# EAGLE library part AS-ITM-00203 (library tinycircuits)
IC GPIO EXP I2C 8CH 20UTQFN
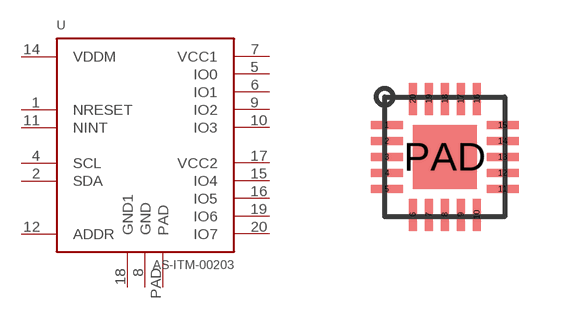
[diagram p88: symbol with the pads of QFN-UT20; footprint QFN-UT20]

Designator prefix U

## AS-ITM-00203 (PARTNO: AS-ITM-00203; VALUE: SX1505I087TRT)  [QFN-UT20]
1  NRESET
2  SDA
4  SCL
5  IO0
6  IO1
7  VCC1
8  GND
9  IO2
10  IO3
11  NINT
12  ADDR
14  VDDM
15  IO4
16  IO5
17  VCC2
18  GND1
19  IO6
20  IO7
PAD  PAD

## Footprint QFN-UT20 (pad centres in mm)
smd 0.8 x 0.2: 1 -1.45,0.8; 2 -1.45,0.4; 3 -1.45,0; 4 -1.45,-0.4; 5 -1.45,-0.8; 11 1.45,-0.8; 12 1.45,-0.4; 13 1.45,0; 14 1.45,0.4; 15 1.45,0.8
smd 0.2 x 0.8: 6 -0.8,-1.45; 7 -0.4,-1.45; 8 0,-1.45; 9 0.4,-1.45; 10 0.8,-1.45; 16 0.8,1.45; 17 0.4,1.45; 18 0,1.45; 19 -0.4,1.45; 20 -0.8,1.45
smd 1.6 x 1.6: PAD 0,0